# EAGLE library part DM3D-SF (library rocket)
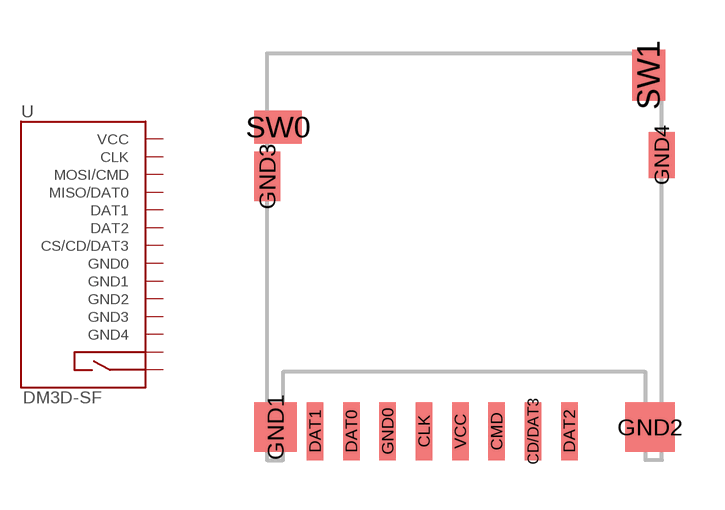
[diagram p5: symbol with the pads of DM3D-SF; footprint DM3D-SF]

Designator prefix -

## DM3D-SF  [DM3D-SF]
CD/DAT3  CS/CD/DAT3
CLK  CLK
CMD  MOSI/CMD
DAT0  MISO/DAT0
DAT1  DAT1
DAT2  DAT2
GND0  GND0
GND1  GND1
GND2  GND2
GND3  GND3
GND4  GND4
SW0  P$1
SW1  P$2
VCC  VCC

## Footprint DM3D-SF (pad centres in mm)
smd 0.5 x 1.75: CD/DAT3 6.6,0; CLK 3.3,0; CMD 5.5,0; DAT0 1.1,0; DAT1 0,0; DAT2 7.7,0; GND0 2.2,0; VCC 4.4,0
smd 1.3 x 1.5: GND1 -1.2,0.125
smd 1.5 x 1.5: GND2 10.15,0.125
smd 0.8 x 1.5: GND3 -1.45,7.725
smd 0.8 x 1.4: GND4 10.5,8.375
smd 1.45 x 1: SW0 -1.125,9.225
smd 1 x 1.55: SW1 10.1,10.8